# Altium integrated library PowerModule.IntLib: 2 symbols
Pins are listed as number, name and electrical type; pins without a type are passive.

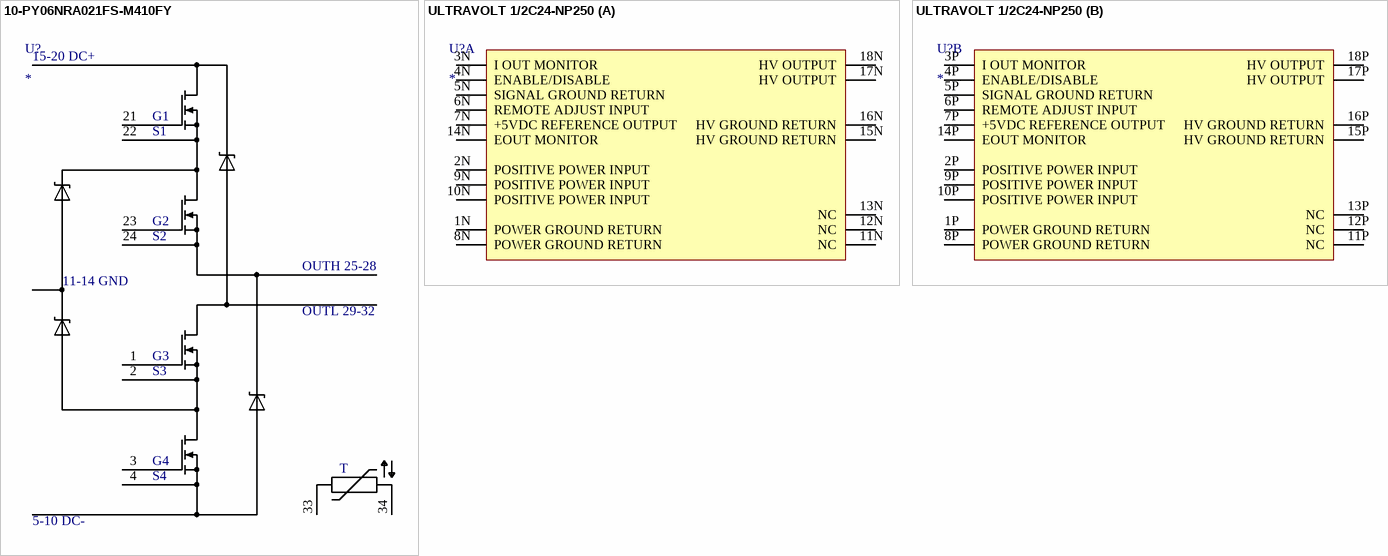
[diagram p0: symbols 10-PY06NRA021FS-M410FY to ULTRAVOLT 1/2C24-NP250]

## 10-PY06NRA021FS-M410FY
designator U?
Split NPC 3 Level LEG; value: *
footprint 10-PY06NRA021FS-M410FY (Split NPC 3 Level LEG)
pins: 1 G3, 2 S3, 3 G4, 4 S4, 5 DC-, 6 DC-, 7 DC-, 8 DC-, 9 DC-, 10 DC-, 11 GND, 12 GND, 13 GND, 14 GND, 15 DC+, 16 DC+, 17 DC+, 18 DC+, 19 DC+, 20 DC+, 21 G1, 22 S1, 23 G2, 24 S2, 25 Out_H, 26 Out_H, 27 Out_H, 28 Out_H, 29 Out_L, 30 Out_L, 31 Out_L, 32 Out_L, 33 NTC1, 34 NTC2
text: 15-20 DC+; OUTH 25-28; 11-14 GND; OUTL 29-32; T; 5-10 DC-

## ULTRAVOLT 1/2C24-NP250
designator U?
Dual-Output High Voltage Power Supply; value: *
footprint ULTRAVOLT 1/2C24-NP250 (BIPOLAR HIGH POWER C SERIES, Dual-Output High Voltage Power Supply)
part A pins: 1N POWER GROUND RETURN, 2N POSITIVE POWER INPUT, 3N I OUT MONITOR, 4N ENABLE/DISABLE, 5N SIGNAL GROUND RETURN, 6N REMOTE ADJUST INPUT, 7N +5VDC REFERENCE OUTPUT, 8N POWER GROUND RETURN, 9N POSITIVE POWER INPUT, 10N POSITIVE POWER INPUT, 11N NC, 12N NC, 13N NC, 14N EOUT MONITOR, 15N HV GROUND RETURN, 16N HV GROUND RETURN, 17N HV OUTPUT, 18N HV OUTPUT
part B pins: 1P POWER GROUND RETURN, 2P POSITIVE POWER INPUT, 3P I OUT MONITOR, 4P ENABLE/DISABLE, 5P SIGNAL GROUND RETURN, 6P REMOTE ADJUST INPUT, 7P +5VDC REFERENCE OUTPUT, 8P POWER GROUND RETURN, 9P POSITIVE POWER INPUT, 10P POSITIVE POWER INPUT, 11P NC, 12P NC, 13P NC, 14P EOUT MONITOR, 15P HV GROUND RETURN, 16P HV GROUND RETURN, 17P HV OUTPUT, 18P HV OUTPUT